# EAGLE library part M903 (library dec-m)
Two-sided Posibus cable/connector.
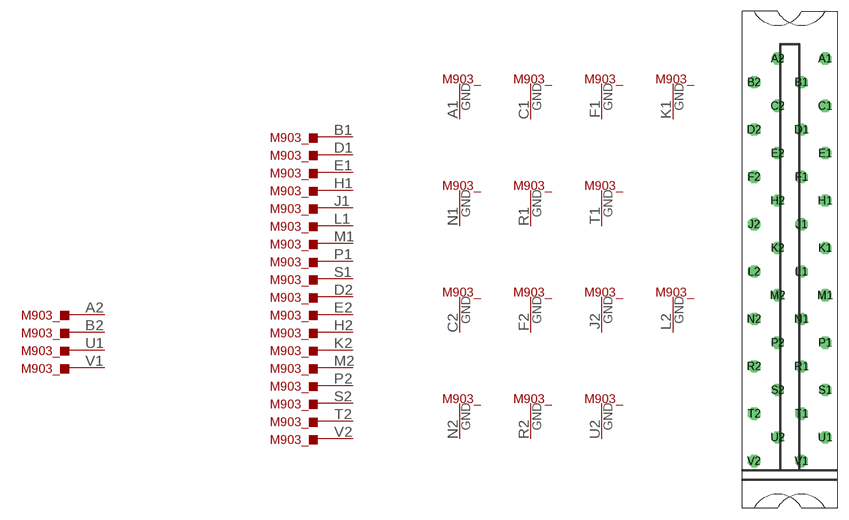
[diagram p26: symbol with the pads of H807; footprint H807]

Designator prefix M903_; gates B1=PIN D1=PIN E1=PIN H1=PIN J1=PIN L1=PIN M1=PIN P1=PIN S1=PIN D2=PIN E2=PIN H2=PIN K2=PIN M2=PIN P2=PIN S2=PIN T2=PIN V2=PIN A1=T1GND C1=T1GND F1=T1GND K1=T1GND N1=T1GND R1=T1GND T1=T1GND C2=T1GND F2=T1GND J2=T1GND L2=T1GND N2=T1GND R2=T1GND U2=T1GND A2=PIN B2=PIN U1=PIN V1=PIN

## M903  [H807]
A1  A1:GND  pwr
A2  A2:P$2
B1  B1:P$2
B2  B2:P$2
C1  C1:GND  pwr
C2  C2:GND  pwr
D1  D1:P$2
D2  D2:P$2
E1  E1:P$2
E2  E2:P$2
F1  F1:GND  pwr
F2  F2:GND  pwr
H1  H1:P$2
H2  H2:P$2
J1  J1:P$2
J2  J2:GND  pwr
K1  K1:GND  pwr
K2  K2:P$2
L1  L1:P$2
L2  L2:GND  pwr
M1  M1:P$2
M2  M2:P$2
N1  N1:GND  pwr
N2  N2:GND  pwr
P1  P1:P$2
P2  P2:P$2
R1  R1:GND  pwr
R2  R2:GND  pwr
S1  S1:P$2
S2  S2:P$2
T1  T1:GND  pwr
T2  T2:P$2
U1  U1:P$2
U2  U2:GND  pwr
V1  V1:P$2
V2  V2:P$2

## Footprint H807 (pad centres in mm)
One-wide female edge connector
drill 1.092 octagon: A1 4.763,28.575; A2 -1.587,28.575; B1 1.587,25.4; B2 -4.763,25.4; C1 4.763,22.225; C2 -1.587,22.225; D1 1.587,19.05; D2 -4.763,19.05; E1 4.763,15.875; E2 -1.587,15.875; F1 1.587,12.7; F2 -4.763,12.7; H1 4.763,9.525; H2 -1.587,9.525; J1 1.587,6.35; J2 -4.763,6.35; K1 4.763,3.175; K2 -1.587,3.175; L1 1.587,0; L2 -4.763,0; M1 4.763,-3.175; M2 -1.587,-3.175; N1 1.587,-6.35; N2 -4.763,-6.35; P1 4.763,-9.525; P2 -1.587,-9.525; R1 1.587,-12.7; R2 -4.763,-12.7; S1 4.763,-15.875; S2 -1.587,-15.875; T1 1.587,-19.05; T2 -4.763,-19.05; U1 4.763,-22.225; U2 -1.587,-22.225; V1 1.587,-25.4; V2 -4.763,-25.4